# EAGLE library part WE-UNIT_74911820X (library Wurth_Elektronik_Passive_rev15e)
WE-UNIT Off-Line Transformer Characteristics Nominal input voltage: 125–375 VDC (85–265 VAC) Output power 3 W and 9 W Operating temperature: –40 °C to +125 °C Clearance and creepage distance 6 mm min. Insulation test voltage: 4 kVAC, 1 Minute Design compliant to EN 61558-2-16: reinforced insulation; except 749 118 10 xx: Basic insulation Applications Designed for Tiny Switch ICs from Power Integration and NCP101x or 105x of ON Semiconductor For SMPS with universal input from 85 VAC up to 265 VAC <http://katalog.we-online.de/media/images/eisos/UtUNIT_MID_pf2.jpg> Details see: http://katalog.we-online.de/en/pbs/WE-UNIT?m Updated by Dan Xu 2014-07-11 2014 (C) Wurth Elektronik
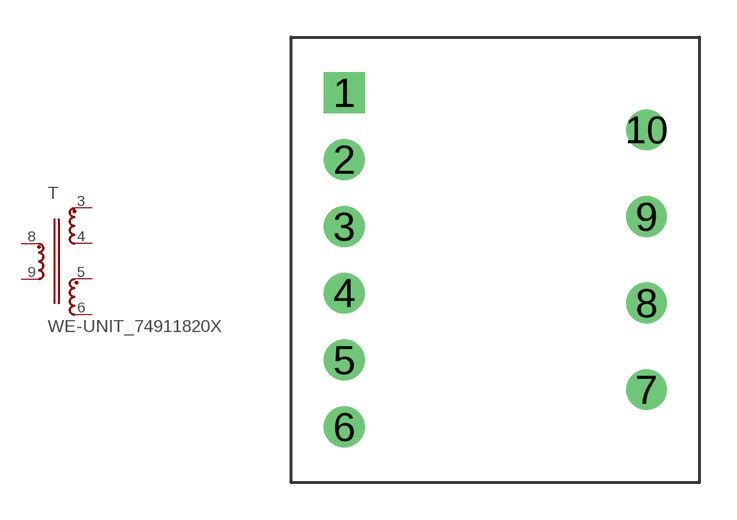
[diagram p51: symbol with the pads of WE_E16/7/4_THT_VERTIKAL_10PIN; footprint WE_E16/7/4_THT_VERTIKAL_10PIN]

Designator prefix T

## WE-UNIT_74911820X  [WE_E16/7/4_THT_VERTIKAL_10PIN]
3  2  pas
4  3  pas
5  4  pas
6  5  pas
8  1  pas
9  6  pas

## Footprint WE_E16/7/4_THT_VERTIKAL_10PIN (pad centres in mm)
Transformer, E16/7/4 THT Vertikal 10 Pin
drill 1.1 square: 1 -6.1,6.75
drill 1.1: 2 -6.1,4.05; 3 -6.1,1.35; 4 -6.1,-1.35; 5 -6.1,-4.05; 6 -6.1,-6.75; 7 6.1,-5.25; 8 6.1,-1.75; 9 6.1,1.75; 10 6.1,5.25